# EAGLE library part AUIRS4426S (library International_Rectifier_By_element14_Batch_1)
DUAL LOW SIDE DRIVER
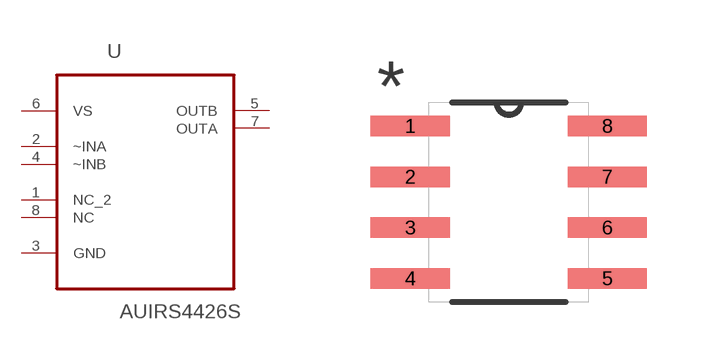
[diagram p21: symbol with the pads of SOIC127P600X175-8N; footprint SOIC127P600X175-8N]

Designator prefix U

## AUIRS4426S (MPN: AUIRS4426S; OC_FARNELL: 1866066; OC_NEWARK: 39T4045; PACKAGE: SOIC-8; SUPPLIER: INTERNATIONAL RECTIFIER)  [SOIC127P600X175-8N]
1  NC_2  nc
2  ~INA  in
3  GND  pas
4  ~INB  in
5  OUTB  out
6  VS  pwr
7  OUTA  out
8  NC  nc

## Footprint SOIC127P600X175-8N (pad centres in mm)
smd 1.981 x 0.508: 1 -2.464,1.905; 2 -2.464,0.635; 3 -2.464,-0.635; 4 -2.464,-1.905; 5 2.464,-1.905; 6 2.464,-0.635; 7 2.464,0.635; 8 2.464,1.905